# Altium schematic symbol library U.FL-R-SMT-1_sch.Schlib: 1 symbol
Pins are listed as number, name and electrical type; pins without a type are passive.

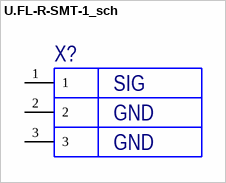
[diagram p0: symbol U.FL-R-SMT-1_sch]

## U.FL-R-SMT-1_sch
designator X?
CONN U.FL RCPT STR 50 OHM SMD; Manufacturer: Hirose; Manufacturer Part Number: U.FL-R-SMT-1(10); Category: Connectors, Interconnects; SMD: 1
footprint U.FL-R-SMT-1
pins: 1, 2, 3
text: SIG; GND